# EAGLE library part AE4575H-1474.9 (library saw-filters-narrowband)
AE4575H-1474.9 Параметр Ед. изм. Мин. значение Тип. значение Макс. значение Центральная частота МГц 1472.9 1474.9 1476.9 Минимальное вносимое затухание дБ - 3 3.4 Полоса среза по уровню -2 дБ МГц 17 18 - Полоса среза по уровню -30 дБ МГц - 60 - Неравномерность АЧХ дБ - 1.5 2 Групповое время задержки нс - - - Гарантированное затухание дБ - 40 - Температурный диапазон °C -55 22 +85 Материал подложки - - Танталат лития 36 -
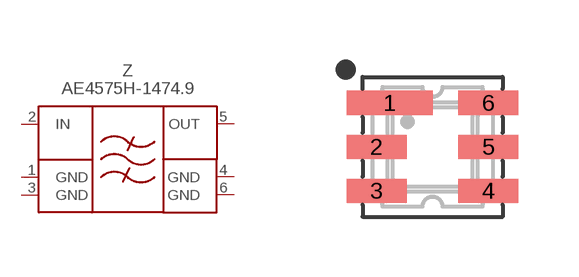
[diagram p18: symbol with the pads of DCC6; footprint DCC6]

Designator prefix Z

## AE4575H-1474.9  [DCC6]
1  GND  pwr
2  IN  in
3  GND  pwr
4  GND  pwr
5  OUT  out
6  GND  pwr

## Footprint DCC6 (pad centres in mm)
smd 2.15 x 0.6: 1 -1.075,1.1
smd 1.5 x 0.6: 2 -1.4,0; 3 -1.4,-1.1; 4 1.4,-1.1; 5 1.4,0; 6 1.4,1.1